# Altium footprint library national-semiconductor.PCBLIB: 26 footprints (part 1 of 2)
Each footprint in its own frame and in the unit in brackets; x right, y up, seen from the top. Pads: shape width x height; smd on the part's side, far side on the other; paste and mask are expansions set on the pad; w line width, h text height; cw(c..) or ccw(c..) is an arc to the next point about the centre after c.
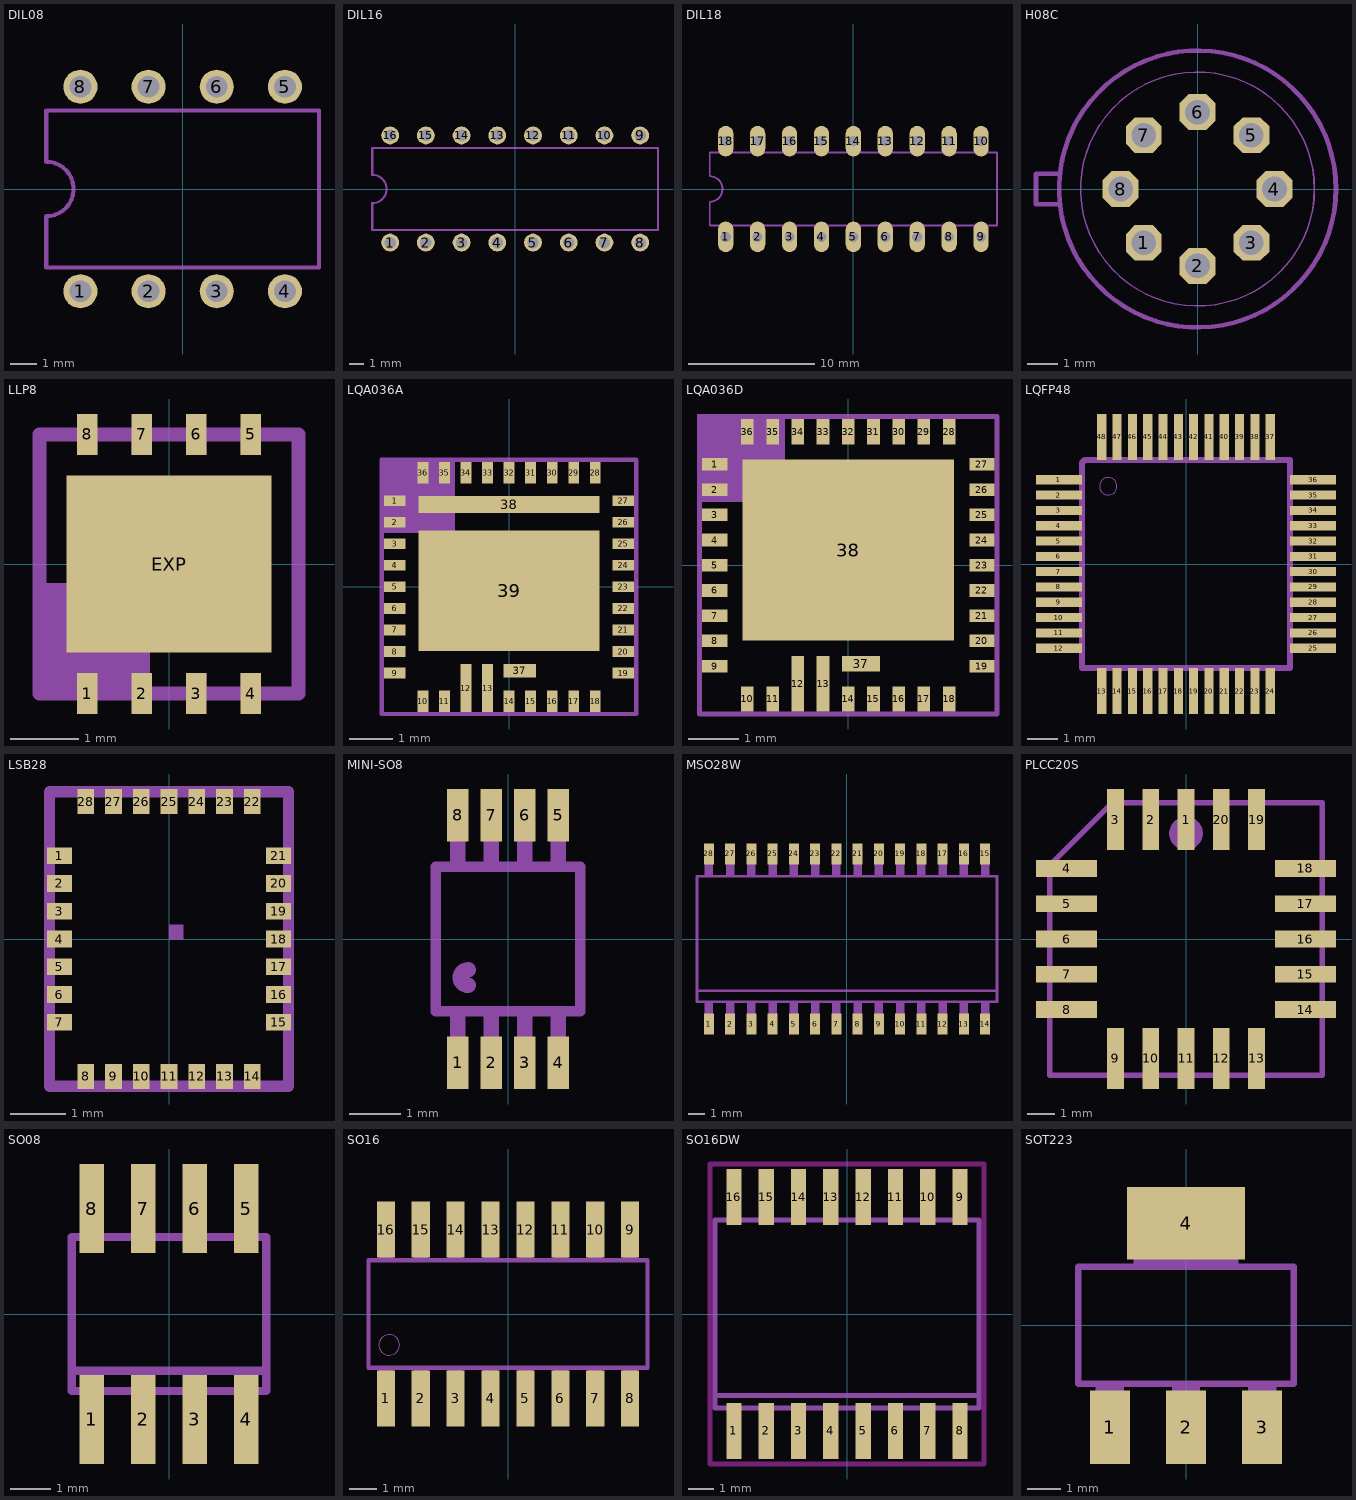
[diagram p0: the footprints below, top view; thin cyan lines are the x and y axes]

## DIL08 [mil]
pads (8):
  round 50 hole 32: 1(-150,-150) 2(-50,-150) 3(50,-150) 4(150,-150) 5(150,150) 6(50,150) 7(-50,150) 8(-150,150)
Mechanical 2:
  lines w6: -200,-115 200,-115 200,115 -200,115 -200,40 cw(c-200,0) -200,-40 -200,-115

## DIL16 [mil]
pads (16):
  round 50 hole 32: 1(-350,-150) 2(-250,-150) 3(-150,-150) 4(-50,-150) 5(50,-150) 6(150,-150) 7(250,-150) 8(350,-150) 9(350,150) 10(250,150) 11(150,150) 12(50,150) 13(-50,150) 14(-150,150) 15(-250,150) 16(-350,150)
Mechanical 2:
  lines w6: -400,-115 400,-115 400,115 -400,115 -400,40 cw(c-400,0) -400,-40 -400,-115

## DIL18 [mil]
pads (18):
  oval 48x96 hole 32: 1(-400,-150) 2(-300,-150) 3(-200,-150) 4(-100,-150) 5(0,-150) 6(100,-150) 7(200,-150) 8(300,-150) 9(400,-150) 10(400,150) 11(300,150) 12(200,150) 13(100,150) 14(0,150) 15(-100,150) 16(-200,150) 17(-300,150) 18(-400,150)
Mechanical 2:
  lines w6: -450,-115 450,-115 450,115 -450,115 -450,40 cw(c-450,0) -450,-40 -450,-115

## H08C [mil]
pads (8):
  oct 46.48x46.48 hole 32: 1(-70,-70) 2(0,-100) 3(70,-70) 4(100,0) 5(70,70) 6(0,100) 7(-70,70) 8(-100,0)
Mechanical 2:
  circle w6: c0,0 r180
  circle w2: c0,0 r152
  lines w6: -180,-20 -210,-20 -210,20 -180,20

## LLP8 [mm]
pads (9):
  rect 0.3x0.6 smd: 1(-1.2,-1.9) 2(-0.4,-1.9) 3(0.4,-1.9) 4(1.2,-1.9) 5(1.2,1.9) 6(0.4,1.9) 7(-0.4,1.9) 8(-1.2,1.9)
  rect 3x2.6 smd: EXP(0,0)
Mechanical 2:
  lines w0.203: -1.7,1.9 -1.9,1.9 -1.9,-1.9 -1.575,-1.9 ; 1.7,-1.9 1.9,-1.9 1.9,1.9 1.7,1.9
Mechanical 18:
  rectangle: -1.875,-1.9 -0.275,-0.275
  rectangle: -0.55,-2 -0.25,-1.6
  rectangle: 0.25,-2 0.55,-1.6
  rectangle: 1.05,-2 1.35,-1.6
  region: 1.35,2 1.05,2 1.05,1.6 1.35,1.6
  region: 0.55,2 0.25,2 0.25,1.6 0.55,1.6
  region: -0.25,2 -0.55,2 -0.55,1.6 -0.25,1.6
  region: -1.05,2 -1.35,2 -1.35,1.6 -1.05,1.6
  lines w0.203: -1.9,-1.9 1.9,-1.9 ; -1.9,1.9 1.9,1.9

## LQA036A [mm]
pads (39):
  rect 0.5x0.25 smd: 1(-2.65,2) 2(-2.65,1.5) 3(-2.65,1) 4(-2.65,0.5) 5(-2.65,0) 6(-2.65,-0.5) 7(-2.65,-1) 8(-2.65,-1.5) 9(-2.65,-2) 19(2.65,-2) 20(2.65,-1.5) 21(2.65,-1) 22(2.65,-0.5) 23(2.65,0) 24(2.65,0.5) 25(2.65,1) 26(2.65,1.5) 27(2.65,2)
  rect 0.25x0.5 smd: 10(-2,-2.65) 11(-1.5,-2.65) 14(0,-2.65) 15(0.5,-2.65) 16(1,-2.65) 17(1.5,-2.65) 18(2,-2.65) 28(2,2.65) 29(1.5,2.65) 30(1,2.65) 31(0.5,2.65) 32(0,2.65) 33(-0.5,2.65) 34(-1,2.65) 35(-1.5,2.65) 36(-2,2.65)
  rect 0.25x1.11 smd: 12(-1,-2.35) 13(-0.5,-2.35)
  rect 0.75x0.31 smd: 37(0.25,-1.95)
  rect 4.2x0.4 smd: 38(0,1.91)
  rect 4.2x2.79 smd: 39(0,-0.09)
Top Layer:
  region: 0,0 0.254,0 0.254,0.254 0,0.254
Mechanical 2:
  lines w0.102: -2.95,-2.3 -2.95,-2.95 -2.3,-2.95 ; -2.95,2.3 -2.95,2.95 -2.3,2.95 ; 2.3,-2.95 2.95,-2.95 2.95,-2.3 ; 2.3,2.95 2.95,2.95 2.95,2.3
Mechanical 18:
  rectangle: -3,1.25 -1.25,3
  lines w0.102: -2.95,-2.95 2.95,-2.95 2.95,2.95 -2.95,2.95 -2.95,-2.95

## LQA036D [mm]
pads (38):
  rect 0.5x0.25 smd: 1(-2.65,2) 2(-2.65,1.5) 3(-2.65,1) 4(-2.65,0.5) 5(-2.65,0) 6(-2.65,-0.5) 7(-2.65,-1) 8(-2.65,-1.5) 9(-2.65,-2) 19(2.65,-2) 20(2.65,-1.5) 21(2.65,-1) 22(2.65,-0.5) 23(2.65,0) 24(2.65,0.5) 25(2.65,1) 26(2.65,1.5) 27(2.65,2)
  rect 0.25x0.5 smd: 10(-2,-2.65) 11(-1.5,-2.65) 14(0,-2.65) 15(0.5,-2.65) 16(1,-2.65) 17(1.5,-2.65) 18(2,-2.65) 28(2,2.65) 29(1.5,2.65) 30(1,2.65) 31(0.5,2.65) 32(0,2.65) 33(-0.5,2.65) 34(-1,2.65) 35(-1.5,2.65) 36(-2,2.65)
  rect 0.25x1.11 smd: 12(-1,-2.35) 13(-0.5,-2.35)
  rect 0.75x0.31 smd: 37(0.25,-1.95)
  rect 4.2x3.59 smd: 38(0,0.3)
Top Layer:
  region: 0,0 0.254,0 0.254,0.254 0,0.254
Mechanical 2:
  lines w0.102: -2.95,-2.3 -2.95,-2.95 -2.3,-2.95 ; -2.95,2.3 -2.95,2.95 -2.3,2.95 ; 2.3,-2.95 2.95,-2.95 2.95,-2.3 ; 2.3,2.95 2.95,2.95 2.95,2.3
Mechanical 18:
  rectangle: -3,1.25 -1.25,3
  lines w0.102: -2.95,-2.95 2.95,-2.95 2.95,2.95 -2.95,2.95 -2.95,-2.95

## LQFP48 [mil]
pads (48):
  rect 59.06x11.81 smd: 1(-163.39,108.27) 2(-163.39,88.58) 3(-163.39,68.9) 4(-163.39,49.21) 5(-163.39,29.53) 6(-163.39,9.84) 7(-163.39,-9.84) 8(-163.39,-29.53) 9(-163.39,-49.21) 10(-163.39,-68.9) 11(-163.39,-88.58) 12(-163.39,-108.27) 25(163.39,-108.27) 26(163.39,-88.58) 27(163.39,-68.9) 28(163.39,-49.21) 29(163.39,-29.53) 30(163.39,-9.84) 31(163.39,9.84) 32(163.39,29.53) 33(163.39,49.21) 34(163.39,68.9) 35(163.39,88.58) 36(163.39,108.27)
  rect 11.81x59.06 smd: 13(-108.27,-163.39) 14(-88.58,-163.39) 15(-68.9,-163.39) 16(-49.21,-163.39) 17(-29.53,-163.39) 18(-9.84,-163.39) 19(9.84,-163.39) 20(29.53,-163.39) 21(49.21,-163.39) 22(68.9,-163.39) 23(88.58,-163.39) 24(108.27,-163.39) 37(108.27,163.39) 38(88.58,163.39) 39(68.9,163.39) 40(49.21,163.39) 41(29.53,163.39) 42(9.84,163.39) 43(-9.84,163.39) 44(-29.53,163.39) 45(-49.21,163.39) 46(-68.9,163.39) 47(-88.58,163.39) 48(-108.27,163.39)
Mechanical 2:
  circle w0: c-100,100 r11.22
  lines w8: -133.8,129.92 -129.92,133.8
Mechanical 18:
  rectangle: -177.17,103.94 -137.8,112.6
  rectangle: -177.17,84.25 -137.8,92.91
  rectangle: -177.17,64.57 -137.8,73.23
  rectangle: -177.17,44.88 -137.8,53.54
  rectangle: -177.17,25.2 -137.8,33.86
  rectangle: -177.17,5.51 -137.8,14.17
  rectangle: -177.17,-14.17 -137.8,-5.51
  rectangle: -177.17,-33.86 -137.8,-25.2
  rectangle: -177.17,-53.54 -137.8,-44.88
  rectangle: -177.17,-73.23 -137.8,-64.57
  rectangle: -177.17,-92.91 -137.8,-84.25
  rectangle: -177.17,-112.6 -137.8,-103.94
  rectangle: -112.6,-177.17 -103.94,-137.8
  rectangle: -92.91,-177.17 -84.25,-137.8
  rectangle: -73.23,-177.17 -64.57,-137.8
  rectangle: -53.54,-177.17 -44.88,-137.8
  rectangle: -33.86,-177.17 -25.2,-137.8
  rectangle: -14.17,-177.17 -5.51,-137.8
  rectangle: 5.51,-177.17 14.17,-137.8
  rectangle: 25.2,-177.17 33.86,-137.8
  rectangle: 44.88,-177.17 53.54,-137.8
  rectangle: 64.57,-177.17 73.23,-137.8
  rectangle: 84.25,-177.17 92.91,-137.8
  rectangle: 103.94,-177.17 112.6,-137.8
  rectangle: 137.8,-112.6 177.17,-103.94
  rectangle: 137.8,-92.91 177.17,-84.25
  rectangle: 137.8,-73.23 177.17,-64.57
  rectangle: 137.8,-53.54 177.17,-44.88
  rectangle: 137.8,-33.86 177.17,-25.2
  rectangle: 137.8,-14.17 177.17,-5.51
  rectangle: 137.8,5.51 177.17,14.17
  rectangle: 137.8,25.2 177.17,33.86
  rectangle: 137.8,44.88 177.17,53.54
  rectangle: 137.8,64.57 177.17,73.23
  rectangle: 137.8,84.25 177.17,92.91
  rectangle: 137.8,103.94 177.17,112.6
  rectangle: 103.94,137.8 112.6,177.17
  rectangle: 84.25,137.8 92.91,177.17
  rectangle: 64.57,137.8 73.23,177.17
  rectangle: 44.88,137.8 53.54,177.17
  rectangle: 25.2,137.8 33.86,177.17
  rectangle: 5.51,137.8 14.17,177.17
  rectangle: -14.17,137.8 -5.51,177.17
  rectangle: -33.86,137.8 -25.2,177.17
  rectangle: -53.54,137.8 -44.88,177.17
  rectangle: -73.23,137.8 -64.57,177.17
  rectangle: -92.91,137.8 -84.25,177.17
  rectangle: -112.6,137.8 -103.94,177.17
  lines w8: -133.8,129.92 -133.8,-133.8 133.8,-133.8 133.8,133.8 -129.92,133.8

## LSB28 [mm]
pads (28):
  rect 0.45x0.3 smd mask-0.225: 1(-1.975,1.5) 2(-1.975,1) 3(-1.975,0.5) 4(-1.975,0) 5(-1.975,-0.5) 6(-1.975,-1) 7(-1.975,-1.5) 15(1.975,-1.5) 16(1.975,-1) 17(1.975,-0.5) 18(1.975,0) 19(1.975,0.5) 20(1.975,1) 21(1.975,1.5)
  rect 0.3x0.45 smd mask-0.225: 8(-1.5,-2.475) 9(-1,-2.475) 10(-0.5,-2.475) 11(0,-2.475) 12(0.5,-2.475) 13(1,-2.475) 14(1.5,-2.475) 22(1.5,2.475) 23(1,2.475) 24(0.5,2.475) 25(0,2.475) 26(-0.5,2.475) 27(-1,2.475) 28(-1.5,2.475)
Top Solder:
  rectangle: -2.225,1.325 -1.725,1.675
  rectangle: -2.225,0.825 -1.725,1.175
  rectangle: -2.225,0.325 -1.725,0.675
  rectangle: -2.225,-0.175 -1.725,0.175
  rectangle: -2.225,-0.675 -1.725,-0.325
  rectangle: -2.225,-1.175 -1.725,-0.825
  rectangle: -2.225,-1.675 -1.725,-1.325
  region: -1.325,-2.725 -1.325,-2.225 -1.675,-2.225 -1.675,-2.725
  region: -0.825,-2.725 -0.825,-2.225 -1.175,-2.225 -1.175,-2.725
  region: -0.325,-2.725 -0.325,-2.225 -0.675,-2.225 -0.675,-2.725
  region: 0.175,-2.725 0.175,-2.225 -0.175,-2.225 -0.175,-2.725
  region: 0.675,-2.725 0.675,-2.225 0.325,-2.225 0.325,-2.725
  region: 1.175,-2.725 1.175,-2.225 0.825,-2.225 0.825,-2.725
  region: 1.675,-2.725 1.675,-2.225 1.325,-2.225 1.325,-2.725
  region: 2.225,-1.325 1.725,-1.325 1.725,-1.675 2.225,-1.675
  region: 2.225,-0.825 1.725,-0.825 1.725,-1.175 2.225,-1.175
  region: 2.225,-0.325 1.725,-0.325 1.725,-0.675 2.225,-0.675
  region: 2.225,0.175 1.725,0.175 1.725,-0.175 2.225,-0.175
  region: 2.225,0.675 1.725,0.675 1.725,0.325 2.225,0.325
  region: 2.225,1.175 1.725,1.175 1.725,0.825 2.225,0.825
  region: 2.225,1.675 1.725,1.675 1.725,1.325 2.225,1.325
  region: 1.325,2.725 1.325,2.225 1.675,2.225 1.675,2.725
  region: 0.825,2.725 0.825,2.225 1.175,2.225 1.175,2.725
  region: 0.325,2.725 0.325,2.225 0.675,2.225 0.675,2.725
  region: -0.175,2.725 -0.175,2.225 0.175,2.225 0.175,2.725
  region: -0.675,2.725 -0.675,2.225 -0.325,2.225 -0.325,2.725
  region: -1.175,2.725 -1.175,2.225 -0.825,2.225 -0.825,2.725
  region: -1.675,2.725 -1.675,2.225 -1.325,2.225 -1.325,2.725
Mechanical 2:
  region: 0,0 0.254,0 0.254,0.254 0,0.254
  lines w0.203: -2.15,-1.9 -2.15,-2.65 -1.85,-2.65 ; -2.15,1.9 -2.15,2.65 -1.85,2.65 ; 1.855,-2.65 2.15,-2.65 2.15,-1.9 ; 1.855,2.65 2.15,2.65 2.15,1.9
Mechanical 18:
  lines w0.203: -2.15,-2.65 2.15,-2.65 2.15,2.65 -2.15,2.65 -2.15,-2.65

## MINI-SO8 [mil]
pads (8):
  rect 16.14x40.16 smd: 1(-38.39,-94.49) 2(-12.8,-94.49) 3(12.8,-94.49) 4(38.39,-94.49) 5(38.39,94.49) 6(12.8,94.49) 7(-12.8,94.49) 8(-38.39,94.49)
Mechanical 2:
  lines w8: -55.12,-55.12 55.12,-55.12 55.12,55.12 -55.12,55.12 -55.12,-55.12
  lines w11.81: -30.51,-35.43 cw(c-30.51,-29.52) -30.51,-23.62
Mechanical 18:
  rectangle: -44.29,-96.46 -32.48,-59.06
  rectangle: -18.7,-96.46 -6.89,-59.06
  rectangle: 6.89,-96.46 18.7,-59.06
  rectangle: 32.48,-96.46 44.29,-59.06
  region: 44.29,96.46 32.48,96.46 32.48,59.06 44.29,59.06
  region: 18.7,96.46 6.89,96.46 6.89,59.06 18.7,59.06
  region: -6.89,96.46 -18.7,96.46 -18.7,59.06 -6.89,59.06
  region: -32.48,96.46 -44.29,96.46 -44.29,59.06 -32.48,59.06

## MSO28W [mil]
pads (28):
  rect 23.62x50 smd: 1(-325,-200) 2(-275,-200) 3(-225,-200) 4(-175,-200) 5(-125,-200) 6(-75,-200) 7(-25,-200) 8(25,-200) 9(75,-200) 10(125,-200) 11(175,-200) 12(225,-200) 13(275,-200) 14(325,-200) 15(325,200) 16(275,200) 17(225,200) 18(175,200) 19(125,200) 20(75,200) 21(25,200) 22(-25,200) 23(-75,200) 24(-125,200) 25(-175,200) 26(-225,200) 27(-275,200) 28(-325,200)
Mechanical 2:
  lines w6: -352.91,-122.25 -352.91,148.16 352.92,148.16 352.92,-122.25 ; -352.91,-122.25 -352.91,-147.25 352.92,-147.25 352.92,-122.25 ; -352.91,-122.25 352.92,-122.25
Mechanical 18:
  rectangle: -335,-208.25 -315,-148.25
  rectangle: -285,-208.25 -265,-148.25
  rectangle: -235,-208.25 -215,-148.25
  rectangle: -185,-208.25 -165,-148.25
  rectangle: -135,-208.25 -115,-148.25
  rectangle: -85,-208.25 -65,-148.25
  rectangle: -35,-208.25 -15,-148.25
  rectangle: 15,-208.25 35,-148.25
  rectangle: 65,-208.25 85,-148.25
  rectangle: 115,-208.25 135,-148.25
  rectangle: 165,-208.25 185,-148.25
  rectangle: 215,-208.25 235,-148.25
  rectangle: 265,-208.25 285,-148.25
  rectangle: 315,-208.25 335,-148.25
  rectangle: 315,149.16 335,209.16
  rectangle: 265,149.16 285,209.16
  rectangle: 215,149.16 235,209.16
  rectangle: 165,149.16 185,209.16
  rectangle: 115,149.16 135,209.16
  rectangle: 65,149.16 85,209.16
  rectangle: 15,149.16 35,209.16
  rectangle: -35,149.16 -15,209.16
  rectangle: -85,149.16 -65,209.16
  rectangle: -135,149.16 -115,209.16
  rectangle: -185,149.16 -165,209.16
  rectangle: -235,149.16 -215,209.16
  rectangle: -285,149.16 -265,209.16
  rectangle: -335,149.16 -315,209.16

## PLCC20S [mil]
pads (20):
  rect 23.62x86.61 smd: 1(0,169.29) 2(-50,169.29) 3(-100,169.29) 9(-100,-169.29) 10(-50,-169.29) 11(0,-169.29) 12(50,-169.29) 13(100,-169.29) 19(100,169.29) 20(50,169.29)
  rect 86.61x23.62 smd: 4(-169.29,100) 5(-169.29,50) 6(-169.29,0) 7(-169.29,-50) 8(-169.29,-100) 14(169.29,-100) 15(169.29,-50) 16(169.29,0) 17(169.29,50) 18(169.29,100)
Mechanical 18:
  circle w24: c0,149.61 r11.81
  rectangle: -10.24,194.88 10.24,212.6
  rectangle: -60.24,194.88 -39.76,212.6
  rectangle: -110.24,194.88 -89.76,212.6
  rectangle: -212.6,89.76 -194.88,110.24
  rectangle: -212.6,39.76 -194.88,60.24
  rectangle: -212.6,-10.24 -194.88,10.24
  rectangle: -212.6,-60.24 -194.88,-39.76
  rectangle: -212.6,-110.24 -194.88,-89.76
  rectangle: -110.24,-212.6 -89.76,-194.88
  rectangle: -60.24,-212.6 -39.76,-194.88
  rectangle: -10.24,-212.6 10.24,-194.88
  rectangle: 39.76,-212.6 60.24,-194.88
  rectangle: 89.76,-212.6 110.24,-194.88
  rectangle: 194.88,-110.24 212.6,-89.76
  rectangle: 194.88,-60.24 212.6,-39.76
  rectangle: 194.88,-10.24 212.6,10.24
  rectangle: 194.88,39.76 212.6,60.24
  rectangle: 194.88,89.76 212.6,110.24
  rectangle: 89.76,194.88 110.24,212.6
  rectangle: 39.76,194.88 60.24,212.6
  lines w8: -192.91,-192.91 -192.91,104.92 -104.92,192.91 192.91,192.91 192.91,-192.91 -192.91,-192.91

## SO08 [mil]
pads (8):
  rect 23.62x86.61 smd: 1(-75,-102.36) 2(-25,-102.36) 3(25,-102.36) 4(75,-102.36) 5(75,102.36) 6(25,102.36) 7(-25,102.36) 8(-75,102.36)
Mechanical 18:
  rectangle: -84.65,-122.05 -65.35,-78.74
  rectangle: -34.65,-122.05 -15.35,-78.74
  rectangle: 15.35,-122.05 34.65,-78.74
  rectangle: 65.35,-122.05 84.65,-78.74
  rectangle: 65.35,78.74 84.65,122.05
  rectangle: 15.35,78.74 34.65,122.05
  rectangle: -34.65,78.74 -15.35,122.05
  rectangle: -84.65,78.74 -65.35,122.05
  lines w8: -94.49,-55.12 -94.49,-74.8 94.49,-74.8 94.49,-55.12 ; -94.49,-55.12 -94.49,74.8 94.49,74.8 94.49,-55.12 ; -94.49,-55.12 94.49,-55.12

## SO16 [mil]
pads (16):
  rect 26x80 smd: 1(-175,-121) 2(-125,-121) 3(-75,-121) 4(-25,-121) 5(25,-121) 6(75,-121) 7(125,-121) 8(175,-121) 9(175,121) 10(125,121) 11(75,121) 12(25,121) 13(-25,121) 14(-75,121) 15(-125,121) 16(-175,121)
Mechanical 2:
  circle w0: c-170.28,-44.29 r14.8
  lines w6: -200,-77 -200,-20 -200,20 -200,77 200,77 200,-77 -200,-77
Mechanical 18:
  rectangle: -35,77 -15,122
  rectangle: -185,-122 -165,-77
  rectangle: -135,-122 -115,-77
  rectangle: -85,-121 -65,-76
  rectangle: -35,-122 -15,-77
  rectangle: -85,77 -65,122
  rectangle: -135,77 -115,122
  rectangle: -185,77 -165,122
  rectangle: 15,-122 35,-77
  rectangle: 65,-122 85,-77
  rectangle: 115,-122 135,-77
  rectangle: 165,-122 185,-77
  rectangle: 15,77 35,122
  rectangle: 65,77 85,122
  rectangle: 115,77 135,122
  rectangle: 165,77 185,122

## SO16DW [mil]
pads (16):
  rect 23.62x86.61 smd: 1(-175,-181.1) 2(-125,-181.1) 3(-75,-181.1) 4(-25,-181.1) 5(25,-181.1) 6(75,-181.1) 7(125,-181.1) 8(175,-181.1) 9(175,181.1) 10(125,181.1) 11(75,181.1) 12(25,181.1) 13(-25,181.1) 14(-75,181.1) 15(-125,181.1) 16(-175,181.1)
Keep-Out Layer:
  lines w7.87: -212.4,-232.28 212.4,-232.28 212.4,232.28 -212.4,232.28 -212.4,-232.28
Mechanical 2:
  lines w8: -204.33,-125.98 204.33,-125.98
Mechanical 18:
  rectangle: -184.65,-209.45 -165.35,-149.61
  rectangle: -134.65,-209.45 -115.35,-149.61
  rectangle: -84.65,-209.45 -65.35,-149.61
  rectangle: -34.65,-209.45 -15.35,-149.61
  rectangle: 15.35,-209.45 34.65,-149.61
  rectangle: 65.35,-209.45 84.65,-149.61
  rectangle: 115.35,-209.45 134.65,-149.61
  rectangle: 165.35,-209.45 184.65,-149.61
  rectangle: 165.35,149.61 184.65,209.45
  rectangle: 115.35,149.61 134.65,209.45
  rectangle: 65.35,149.61 84.65,209.45
  rectangle: 15.35,149.61 34.65,209.45
  rectangle: -34.65,149.61 -15.35,209.45
  rectangle: -84.65,149.61 -65.35,209.45
  rectangle: -134.65,149.61 -115.35,209.45
  rectangle: -184.65,149.61 -165.35,209.45
  lines w8: -204.33,-145.67 204.33,-145.67 204.33,145.67 -204.33,145.67 -204.33,-145.67

## SOT223 [mil]
pads (4):
  rect 48x88 smd: 1(-91,-122) 2(0,-122) 3(91,-122)
  rect 141.73x86.61 smd: 4(0,122.01)
Mechanical 2:
  lines w8: -129,-70 129,-70 129,70 -129,70 -129,-70
Mechanical 18:
  rectangle: -63,71 63,144
  rectangle: -17,-144 17,-71
  rectangle: -108,-144 -74,-71
  rectangle: 74,-144 108,-71
  rectangle: -63,71 63,144
  rectangle: -17,-144 17,-71
  rectangle: -108,-144 -74,-71
  rectangle: 74,-144 108,-71